# EAGLE library part 20021121-00008 (library all-connectors)
20021121-00008 Amphenol FCI Minitek127® Board to Board connector, Unshrouded vertical header, Surface Mount, Double Row, 8 Positions, 1.27mm (0.5inch) pitch
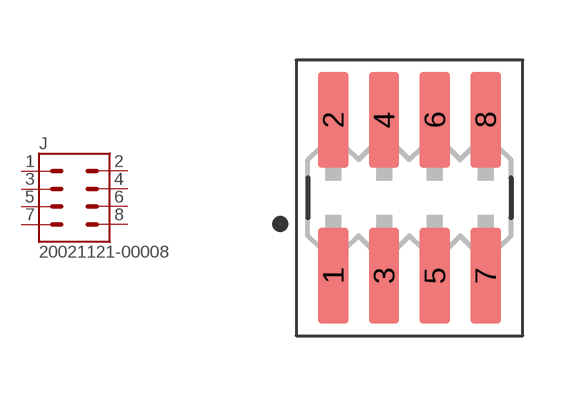
[diagram p22: symbol with the pads of MA04-2_SMD_1.27MM; footprint MA04-2_SMD_1.27MM]

Designator prefix J

## 20021121-00008  [MA04-2_SMD_1.27MM]
1  1  pas
2  2  pas
3  3  pas
4  4  pas
5  5  pas
6  6  pas
7  7  pas
8  8  pas

## Footprint MA04-2_SMD_1.27MM (pad centres in mm)
smd 0.76 x 2.4: 1 -1.905,-1.95; 2 -1.905,1.95; 3 -0.635,-1.95; 4 -0.635,1.95; 5 0.635,-1.95; 6 0.635,1.95; 7 1.905,-1.95; 8 1.905,1.95